# Altium footprint library myICs.PcbLib: 56 footprints (part 3 of 4)
Each footprint in its own frame and in the unit in brackets; x right, y up, seen from the top. Pads: shape width x height; smd on the part's side, far side on the other; paste and mask are expansions set on the pad; w line width, h text height; cw(c..) or ccw(c..) is an arc to the next point about the centre after c.
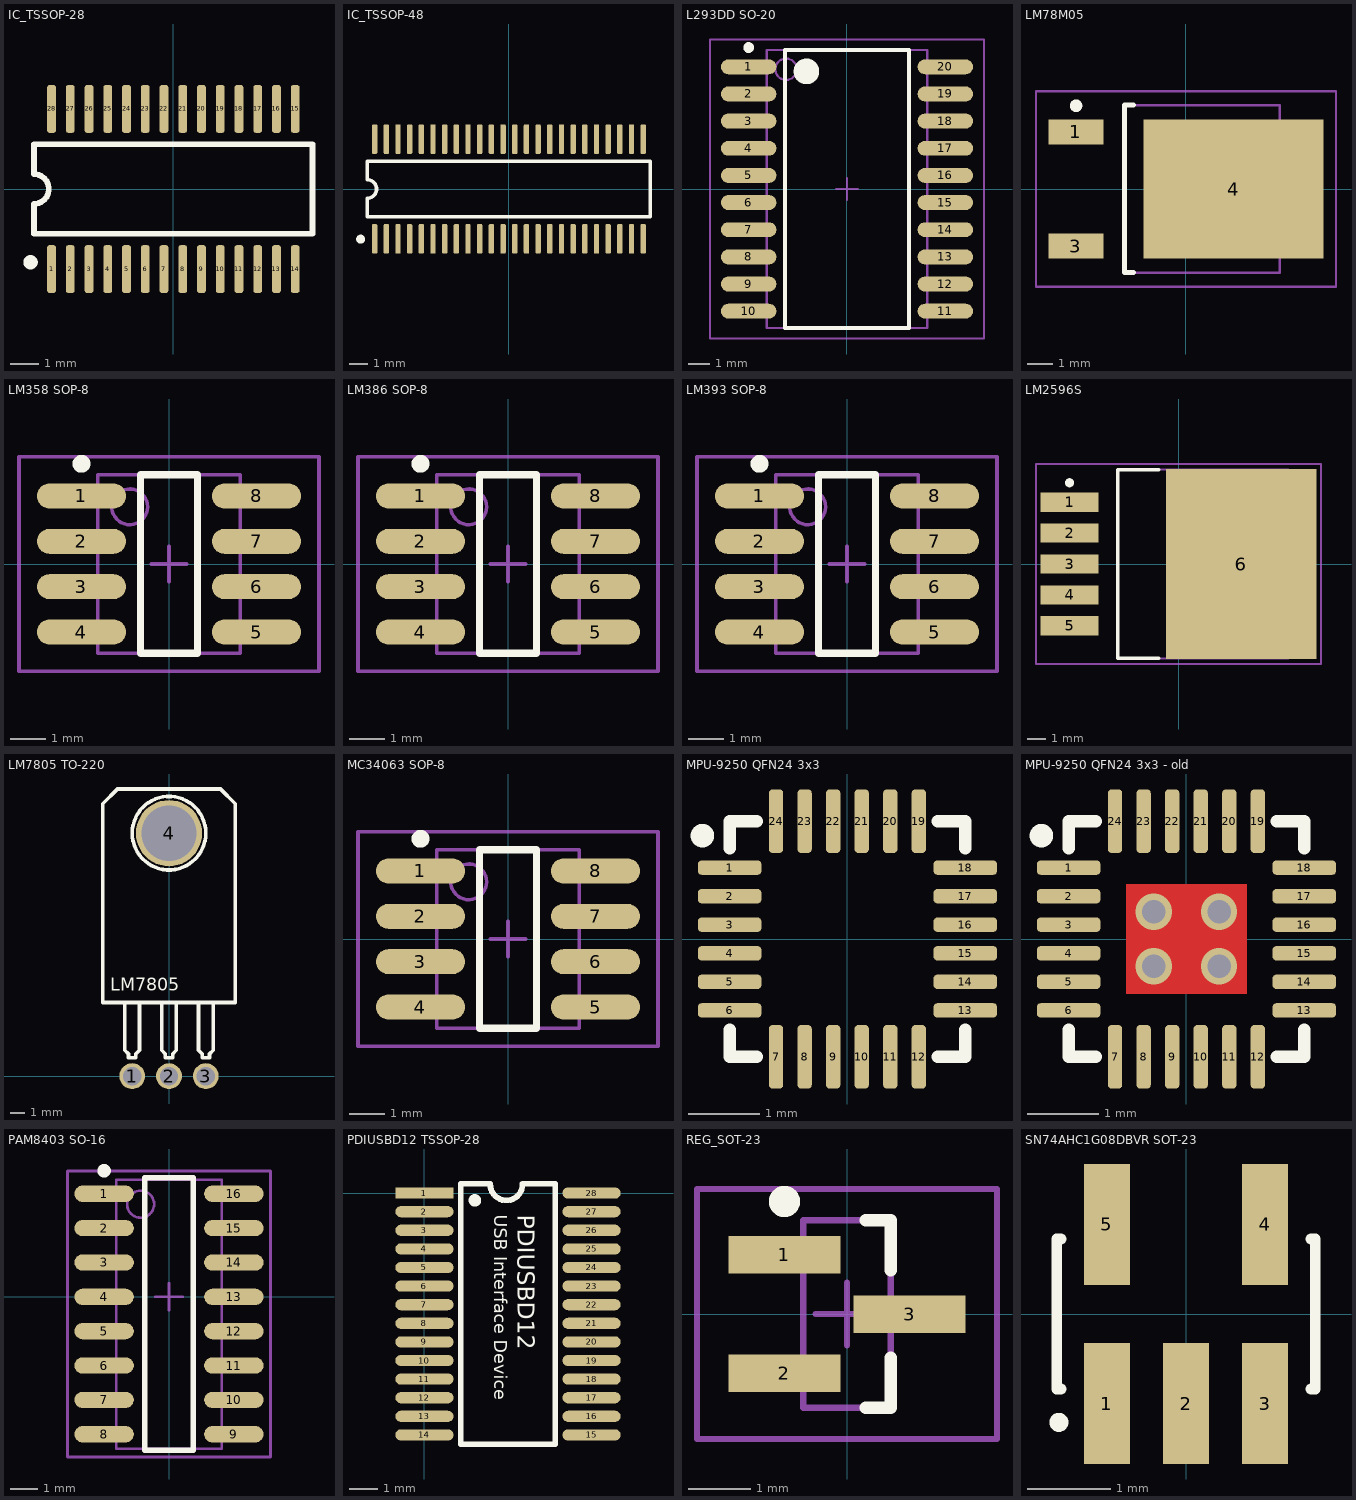
[diagram p2: the footprints below, top view; thin cyan lines are the x and y axes]

## IC_TSSOP-28 [mm] "Shrink Small Outline; 28 Leads; Body Width 4.4 mm; Pitch 0.65 mm"
height 1.2
pads (28):
  rrect50% 0.3x1.65 smd: 1(-4.225,-2.775) 2(-3.575,-2.775) 3(-2.925,-2.775) 4(-2.275,-2.775) 5(-1.625,-2.775) 6(-0.975,-2.775) 7(-0.325,-2.775) 8(0.325,-2.775) 9(0.975,-2.775) 10(1.625,-2.775) 11(2.275,-2.775) 12(2.925,-2.775) 13(3.575,-2.775) 14(4.225,-2.775) 15(4.225,2.775) 16(3.575,2.775) 17(2.925,2.775) 18(2.275,2.775) 19(1.625,2.775) 20(0.975,2.775) 21(0.325,2.775) 22(-0.325,2.775) 23(-0.975,2.775) 24(-1.625,2.775) 25(-2.275,2.775) 26(-2.925,2.775) 27(-3.575,2.775) 28(-4.225,2.775)
Top Overlay:
  circle w0.25: c-4.951,-2.54 r0.125
  lines w0.2: -4.836,-1.55 -4.836,-0.517 ccw(c-4.836,0) -4.836,0.517 -4.836,1.55 ; -4.826,-1.55 4.826,-1.55 4.826,1.55 -4.826,1.55
3D body: height 1.2, standoff 0, extent -4.826,-1.524 4.826,1.524

## IC_TSSOP-48 [mm] "Shrink Small Outline; 48 Leads; Body Width 4.4 mm; Pitch 0.65 mm"
height 1.2
pads (48):
  rrect50% 0.3x1.65 smd: 1(-7.475,-2.775) 2(-6.825,-2.775) 3(-6.175,-2.775) 4(-5.525,-2.775) 5(-4.875,-2.775) 6(-4.225,-2.775) 7(-3.575,-2.775) 8(-2.925,-2.775) 9(-2.275,-2.775) 10(-1.625,-2.775) 11(-0.975,-2.775) 12(-0.325,-2.775) 13(0.325,-2.775) 14(0.975,-2.775) 15(1.625,-2.775) 16(2.275,-2.775) 17(2.925,-2.775) 18(3.575,-2.775) 19(4.225,-2.775) 20(4.875,-2.775) 21(5.525,-2.775) 22(6.175,-2.775) 23(6.825,-2.775) 24(7.475,-2.775) 25(7.475,2.775) 26(6.825,2.775) 27(6.175,2.775) 28(5.525,2.775) 29(4.875,2.775) 30(4.225,2.775) 31(3.575,2.775) 32(2.925,2.775) 33(2.275,2.775) 34(1.625,2.775) 35(0.975,2.775) 36(0.325,2.775) 37(-0.325,2.775) 38(-0.975,2.775) 39(-1.625,2.775) 40(-2.275,2.775) 41(-2.925,2.775) 42(-3.575,2.775) 43(-4.225,2.775) 44(-4.875,2.775) 45(-5.525,2.775) 46(-6.175,2.775) 47(-6.825,2.775) 48(-7.475,2.775)
Top Overlay:
  circle w0.25: c-8.253,-2.794 r0.125
  lines w0.2: -7.884,-1.55 -7.884,-0.517 ccw(c-7.884,0) -7.884,0.517 -7.884,1.55 ; -7.874,-1.55 7.874,-1.55 7.874,1.55 -7.874,1.55
3D body: height 1.2, standoff 0, extent -7.874,-1.524 7.874,1.524

## L293DD SO-20 [mm] "20-Pin Plastic Small Outline Integrated Circuit 1.27 mm Pitch, IPC Low Density"
height 2.65
pads (20):
  oval 2.6x0.7 smd: 1(-4.6,5.715) 2(-4.6,4.445) 3(-4.6,3.175) 4(-4.6,1.905) 5(-4.6,0.635) 6(-4.6,-0.635) 7(-4.6,-1.905) 8(-4.6,-3.175) 9(-4.6,-4.445) 10(-4.6,-5.715) 11(4.6,-5.715) 12(4.6,-4.445) 13(4.6,-3.175) 14(4.6,-1.905) 15(4.6,-0.635) 16(4.6,0.635) 17(4.6,1.905) 18(4.6,3.175) 19(4.6,4.445) 20(4.6,5.715)
Top Overlay:
  circle w0.6: c-1.9,5.5 r0.3
  circle w0.25: c-4.6,6.615 r0.125
  lines w0.2: -2.9,-6.5 2.9,-6.5 2.9,6.5 -2.9,6.5 -2.9,-6.5
Mechanical 13:
  circle w0.1: c-2.85,5.6 r0.5
  lines w0.1: -3.75,-6.5 3.75,-6.5 3.75,6.5 -3.75,6.5 -3.75,-6.5
Mechanical 15:
  lines w0.1: -0.5,0 0.5,0 ; 0,-0.5 0,0.5 ; -6.4,-7 6.4,-7 6.4,7 -6.4,7 -6.4,-7
3D body: height 2.65, standoff 0, extent -3.75,-6.5 3.75,6.5

## LM78M05 [mm] "D-PAK, 4-Leads, Body 6.1x6.6mm, Pitch 2.29mm, Lead Span 9.7mm, IPC Low Density"
height 2.38
pads (3):
  rect 2.2x1 smd: 1(-4.4,2.28) 3(-4.4,-2.28)
  rect 7.2x5.55 smd: 4(1.9,0)
Top Overlay:
  circle w0.25: c-4.4,3.33 r0.125
  lines w0.2: -2.1,-3.35 -2.45,-3.35 -2.45,3.35 -2.1,3.35
Mechanical 13:
  lines w0.1: -2.45,-3.35 -2.45,3.35 3.75,3.35 3.75,-3.35 -2.45,-3.35
Mechanical 15:
  lines w0.1: -0.5,0 0.5,0 ; 0,-0.5 0,0.5 ; -6,-3.9 -6,3.9 6,3.9 6,-3.9 -6,-3.9
3D body: height 2.38, standoff 0, extent -2.449,-3.349 3.749,3.349

## LM358 SOP-8 [mm] "8-Pin Small Outline Integrated Circuit 1.27 mm Pitch, IPC Low Density"
height 1.73
pads (8):
  oval 2.5x0.7 smd: 1(-2.45,1.905) 2(-2.45,0.635) 3(-2.45,-0.635) 4(-2.45,-1.905) 5(2.45,-1.905) 6(2.45,-0.635) 7(2.45,0.635) 8(2.45,1.905)
Top Overlay:
  circle w0.25: c-2.45,2.805 r0.125
  lines w0.2: -0.8,-2.5 -0.8,2.5 0.8,2.5 0.8,-2.5 -0.8,-2.5
Mechanical 13:
  circle w0.1: c-1.1,1.6 r0.5
  lines w0.1: -2,-2.5 -2,2.5 2,2.5 2,-2.5 -2,-2.5
Mechanical 15:
  lines w0.1: -0.5,0 0.5,0 ; 0,-0.5 0,0.5 ; -4.2,-3 -4.2,3 4.2,3 4.2,-3 -4.2,-3
3D body: height 1.73, standoff 0, extent -2,-2.5 2,2.5

## LM386 SOP-8 [mm] "8-Pin Small Outline Integrated Circuit 1.27 mm Pitch, IPC Low Density"
height 1.73
pads (8):
  oval 2.5x0.7 smd: 1(-2.45,1.905) 2(-2.45,0.635) 3(-2.45,-0.635) 4(-2.45,-1.905) 5(2.45,-1.905) 6(2.45,-0.635) 7(2.45,0.635) 8(2.45,1.905)
Top Overlay:
  circle w0.25: c-2.45,2.805 r0.125
  lines w0.2: -0.8,-2.5 -0.8,2.5 0.8,2.5 0.8,-2.5 -0.8,-2.5
Mechanical 13:
  circle w0.1: c-1.1,1.6 r0.5
  lines w0.1: -2,-2.5 -2,2.5 2,2.5 2,-2.5 -2,-2.5
Mechanical 15:
  lines w0.1: -0.5,0 0.5,0 ; 0,-0.5 0,0.5 ; -4.2,-3 -4.2,3 4.2,3 4.2,-3 -4.2,-3
3D body: height 1.73, standoff 0, extent -2,-2.5 2,2.5

## LM393 SOP-8 [mm] "8-Pin Small Outline Integrated Circuit 1.27 mm Pitch, IPC Low Density"
height 1.73
pads (8):
  oval 2.5x0.7 smd: 1(-2.45,1.905) 2(-2.45,0.635) 3(-2.45,-0.635) 4(-2.45,-1.905) 5(2.45,-1.905) 6(2.45,-0.635) 7(2.45,0.635) 8(2.45,1.905)
Top Overlay:
  circle w0.25: c-2.45,2.805 r0.125
  lines w0.2: -0.8,-2.5 -0.8,2.5 0.8,2.5 0.8,-2.5 -0.8,-2.5
Mechanical 13:
  circle w0.1: c-1.1,1.6 r0.5
  lines w0.1: -2,-2.5 -2,2.5 2,2.5 2,-2.5 -2,-2.5
Mechanical 15:
  lines w0.1: -0.5,0 0.5,0 ; 0,-0.5 0,0.5 ; -4.2,-3 -4.2,3 4.2,3 4.2,-3 -4.2,-3
3D body: height 1.73, standoff 0, extent -2,-2.5 2,2.5

## LM2596S [mm] "D2-PAK, 6-Leads, Body 8.6x10.2mm, Pitch 1.7mm, Lead Span 14.1mm, IPC Medium Density"
height 4.65
pads (6):
  rect 3.2x1.05 smd: 1(-6,3.4) 2(-6,1.7) 3(-6,0) 4(-6,-1.7) 5(-6,-3.4)
  rect 8.3x10.45 smd: 6(3.45,0)
Top Overlay:
  circle w0.25: c-6,4.475 r0.125
  lines w0.2: -1.1,-5.2 -3.35,-5.2 -3.35,5.2 -1.1,5.2
Mechanical 13:
  lines w0.1: -3.35,-5.2 6.05,-5.2 6.05,5.2 -3.35,5.2 -3.35,-5.2
Mechanical 15:
  lines w0.1: -0.5,0 0.5,0 ; 0,-0.5 0,0.5 ; -7.85,-5.5 7.85,-5.5 7.85,5.5 -7.85,5.5 -7.85,-5.5
3D body: height 4.65, standoff 0, extent -3.35,-5.2 6.05,5.2

## LM7805 TO-220 [mil]
pads (4):
  round 70 hole 50: 1(-100,0) 2(0,0) 3(100,0)
  round 180 hole 150: 4(0,660)
Top Overlay:
  circle w10: c0,660 r100
  lines w10: -120,200 -120,70 -110,60 -110,50 -90,50 -90,60 -80,70 -80,200 ; -20,200 -20,70 -10,60 -10,50 10,50 10,60 20,70 20,200 ; 80,200 80,70 90,60 90,50 110,50 110,60 120,70 120,200 ; -180,200 -180,740 -140,780 140,780 180,740 180,200 -180,200
  text "LM7805" at -160,220 h60
3D body: height 10, standoff 0, extent -180,200 180,780

## MC34063 SOP-8 [mm] "8-Pin Small Outline Integrated Circuit 1.27 mm Pitch, IPC Low Density"
height 1.73
pads (8):
  oval 2.5x0.7 smd: 1(-2.45,1.905) 2(-2.45,0.635) 3(-2.45,-0.635) 4(-2.45,-1.905) 5(2.45,-1.905) 6(2.45,-0.635) 7(2.45,0.635) 8(2.45,1.905)
Top Overlay:
  circle w0.25: c-2.45,2.805 r0.125
  lines w0.2: -0.8,-2.5 0.8,-2.5 0.8,2.5 -0.8,2.5 -0.8,-2.5
Mechanical 13:
  circle w0.1: c-1.1,1.6 r0.5
  lines w0.1: -2,-2.5 2,-2.5 2,2.5 -2,2.5 -2,-2.5
Mechanical 15:
  lines w0.1: -0.5,0 0.5,0 ; 0,-0.5 0,0.5 ; -4.2,-3 4.2,-3 4.2,3 -4.2,3 -4.2,-3
3D body: height 1.73, standoff 0, extent -2,-2.5 2,2.5

## MPU-9250 QFN24 3x3 [mm]
height 1
pads (24):
  rrect50% 0.889x0.2 smd mask+0.051: 1(-1.651,1) 2(-1.651,0.6) 3(-1.651,0.2) 4(-1.651,-0.2) 5(-1.651,-0.6) 6(-1.651,-1) 13(1.651,-1) 14(1.651,-0.6) 15(1.651,-0.2) 16(1.651,0.2) 17(1.651,0.6) 18(1.651,1)
  rrect50% 0.2x0.889 smd mask+0.051: 7(-1,-1.651) 8(-0.6,-1.651) 9(-0.2,-1.651) 10(0.2,-1.651) 11(0.6,-1.651) 12(1,-1.651) 19(1,1.651) 20(0.6,1.651) 21(0.2,1.651) 22(-0.2,1.651) 23(-0.6,1.651) 24(-1,1.651)
Top Overlay:
  circle w0.178: c-2.032,1.448 r0.076
  lines w0.178: -1.651,-1.27 -1.651,-1.651 -1.27,-1.651 ; -1.651,1.27 -1.651,1.651 -1.27,1.651 ; 1.27,-1.651 1.651,-1.651 1.651,-1.27 ; 1.27,1.651 1.651,1.651 1.651,1.27
3D body: height 1, standoff 0, extent -1.5,-1.5 1.5,1.5

## MPU-9250 QFN24 3x3 - old [mm]
height 1
pads (24):
  rrect50% 0.889x0.2 smd mask+0.051: 1(-1.651,1) 2(-1.651,0.6) 3(-1.651,0.2) 4(-1.651,-0.2) 5(-1.651,-0.6) 6(-1.651,-1) 13(1.651,-1) 14(1.651,-0.6) 15(1.651,-0.2) 16(1.651,0.2) 17(1.651,0.6) 18(1.651,1)
  rrect50% 0.2x0.889 smd mask+0.051: 7(-1,-1.651) 8(-0.6,-1.651) 9(-0.2,-1.651) 10(0.2,-1.651) 11(0.6,-1.651) 12(1,-1.651) 19(1,1.651) 20(0.6,1.651) 21(0.2,1.651) 22(-0.2,1.651) 23(-0.6,1.651) 24(-1,1.651)
via 0.457,-0.381 diameter 0.508 hole 0.33
via 0.457,0.381 diameter 0.508 hole 0.33
via -0.457,0.381 diameter 0.508 hole 0.33
via -0.457,-0.381 diameter 0.508 hole 0.33
Top Layer:
  rectangle: -0.85,-0.77 0.85,0.77
Top Overlay:
  circle w0.178: c-2.032,1.448 r0.076
  lines w0.178: -1.651,-1.27 -1.651,-1.651 -1.27,-1.651 ; -1.651,1.27 -1.651,1.651 -1.27,1.651 ; 1.27,-1.651 1.651,-1.651 1.651,-1.27 ; 1.27,1.651 1.651,1.651 1.651,1.27
Top Paste:
  rectangle: -0.85,-0.77 0.85,0.77
Top Solder:
  rectangle: -0.926,-0.846 0.926,0.846
3D body: height 1, standoff 0, extent -1.5,-1.5 1.5,1.5

## PAM8403 SO-16 [mm] "SOP, 14-Leads, Body 8.7x3.9mm, Pitch 1.27mm, IPC Medium Density"
height 1.75
pads (16):
  oval 2.2x0.6 smd: 1(-2.4,3.81) 2(-2.4,2.54) 3(-2.4,1.27) 4(-2.4,0) 5(-2.4,-1.27) 6(-2.4,-2.54) 7(-2.4,-3.81) 8(-2.4,-5.08) 9(2.4,-5.08) 10(2.4,-3.81) 11(2.4,-2.54) 12(2.4,-1.27) 13(2.4,0) 14(2.4,1.27) 15(2.4,2.54) 16(2.4,3.81)
Top Overlay:
  circle w0.25: c-2.4,4.66 r0.125
  lines w0.2: -0.9,-5.67 0.9,-5.67 0.9,4.4 -0.9,4.4 -0.9,-5.67
Mechanical 13:
  circle w0.1: c-1.05,3.425 r0.5
  lines w0.1: -1.95,-5.613 1.95,-5.613 1.95,4.325 -1.95,4.325 -1.95,-5.613
Mechanical 15:
  lines w0.1: -0.5,0 0.5,0 ; 0,-0.5 0,0.5 ; -3.75,-5.918 3.75,-5.918 3.75,4.65 -3.75,4.65 -3.75,-5.918
3D body: height 1.75, standoff 0, extent -1.956,-5.664 1.95,4.325

## PDIUSBD12 TSSOP-28 [mm]
pads (28):
  rect 2.032x0.39 smd: 1(0,0)
  oval 2.032x0.39 smd: 2(0,-0.65) 3(0,-1.3) 4(0,-1.95) 5(0,-2.6) 6(0,-3.25) 7(0,-3.9) 8(0,-4.55) 9(0,-5.2) 10(0,-5.85) 11(0,-6.5) 12(0,-7.15) 13(0,-7.8) 14(0,-8.45) 15(5.842,-8.45) 16(5.842,-7.8) 17(5.842,-7.15) 18(5.842,-6.5) 19(5.842,-5.85) 20(5.842,-5.2) 21(5.842,-4.55) 22(5.842,-3.9) 23(5.842,-3.25) 24(5.842,-2.6) 25(5.842,-1.95) 26(5.842,-1.3) 27(5.842,-0.65) 28(5.842,0)
Top Overlay:
  circle w0.254: c1.763,-0.254 r0.092
  lines w0.199: 2.302,0.325 ccw(c2.865,0.307) 3.429,0.325
  lines w0.2: 2.302,0.325 1.27,0.325 1.27,-8.775 4.572,-8.775 4.572,0.325 3.429,0.325
  text "PDIUSBD12" at 3.048,-0.762 h1.02
  text "USB Interface Device" at 2.286,-0.762 h0.76
3D body: height 0.25, standoff 0, extent 1.27,-8.763 4.572,0.381

## REG_SOT-23 [mm] "SOT23, 3-Leads, Body 2.9x1.3mm, Pitch 0.95mm, Lead Span 2.5mm, IPC Low Density"
height 1.1
pads (3):
  rect 1.8x0.6 smd: 1(-1,0.95) 2(-1,-0.95) 3(1,0)
Top Overlay:
  circle w0.25: c-1,1.8 r0.125
  lines w0.2: 0.3,-1.5 0.7,-1.5 0.7,-0.7 ; 0.3,1.5 0.7,1.5 0.7,0.7
Mechanical 13:
  lines w0.1: -0.7,-1.5 0.7,-1.5 0.7,1.5 -0.7,1.5 -0.7,-1.5
Mechanical 15:
  lines w0.1: -0.5,0 0.5,0 ; 0,-0.5 0,0.5 ; -2.4,-2 2.4,-2 2.4,2 -2.4,2 -2.4,-2
3D body: height 1.1, standoff 0, extent -0.7,-1.5 0.7,1.5

## SN74AHC1G08DBVR SOT-23 [mm] "SOT-23/SC-74A; 5 Leads; Body 3 x 3 mm, inc. leads (LxW max)"
height 1.45
pads (5):
  rect 0.55x1.45 smd: 1(-0.95,-1.075) 2(0,-1.075) 3(0.95,-1.075) 4(0.95,1.075) 5(-0.95,1.075)
Top Overlay:
  circle w0.127: c-1.525,-1.3 r0.05
  lines w0.127: -1.5,-0.9 -1.55,-0.9 -1.55,0.9 -1.5,0.9 ; 1.5,-0.9 1.55,-0.9 1.55,0.9 1.5,0.9
3D body: height 1.45, standoff 0, extent -1.524,-0.889 1.524,0.889